# EAGLE library part 2.4"OLED (library jason_eagle6)
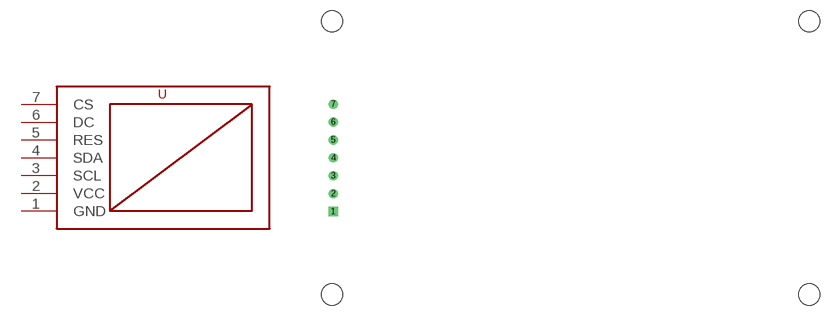
[diagram p53: symbol with the pads of 2.4"OLED; footprint 2.4"OLED]

Designator prefix -

## 2.4"OLED  [2.4"OLED]
1  GND  pwr
2  VCC  pwr
3  SCL
4  SDA
5  RES
6  DC
7  CS

## Footprint 2.4"OLED (pad centres in mm)
drill 0.8 square: 1 -33.7,-7.62
drill 0.8: 2 -33.7,-5.08; 3 -33.7,-2.54; 4 -33.7,0; 5 -33.7,2.54; 6 -33.7,5.08; 7 -33.7,7.62
hole 3 at -33.9,-19.4
hole 3 at 33.9,-19.4
hole 3 at 33.9,19.4
hole 3 at -33.9,19.4